# Altium schematic symbol library POWERDIVIDER.Schlib: 1 symbol
Pins are listed as number, name and electrical type; pins without a type are passive.

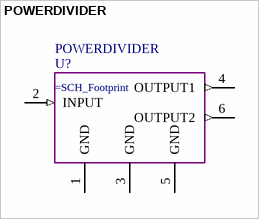
[diagram p0: symbol POWERDIVIDER]

## POWERDIVIDER
designator U?
pins: 1 GND, 2 INPUT (in), 3 GND, 4 OUTPUT1 (out), 5 GND (power), 6 OUTPUT2 (out)
2 alternate drawings of the same symbol